# Altium schematic symbol library Electro-Mechanical.SchLib: 38 symbols (part 2 of 2)
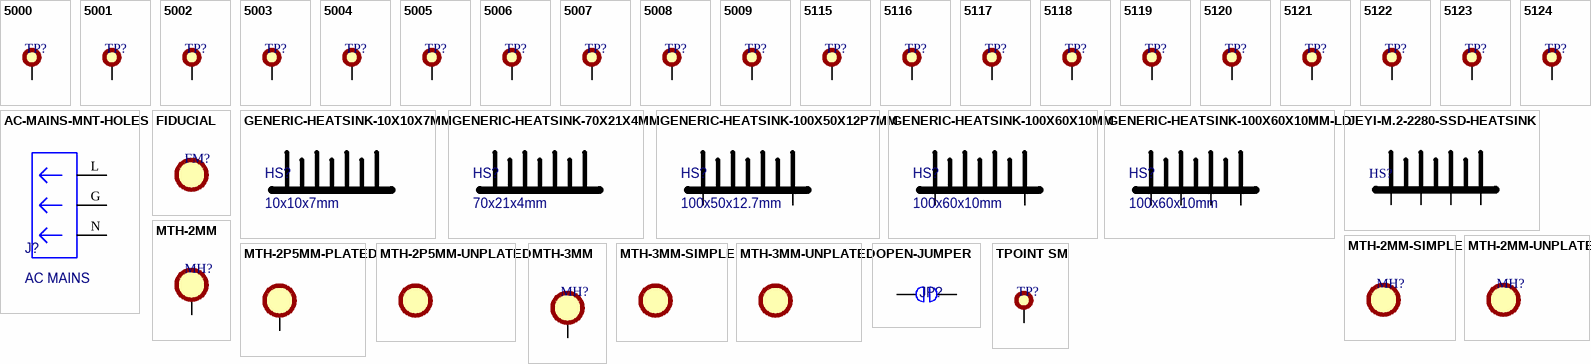
[diagram p1: symbols 5000 to TPOINT SM]

## 5123
designator TP?, comment GREY TEST POINT  (value not drawn)
PC TEST POINT COMPACT GREY; Manufacturer: Keystone; Manufacturer Part Number: 5123; Body Material: PBT; Supplier: DigiKey; Supplier Part Number: 36-5123-ND; RoHS: Compliant; Category: Test Points; Stock: 4125; Pricing: 1=0.39, 10=0.293, 25=0.2624, 100=0.2223, 500=0.19, 2500=0.16, 5000=0.14312 (USD); Color: Grey; Contact Material: Bronze; Contact Plating: Silver; Flammability Rating: UL94 V-0; Height: 8.89mm; Lead Free: Lead Free; Lifecycle Status: Production; Material: Bronze, Nylon; Max Operating Temperature: 85°C; Min Operating Temperature: -45°C; Mounting Technology: PCB, Through Hole; Packaging: Bulk; REACH SVHC: Yes; ComponentLink1URL: https://datasheet.octopart.com:443/5123-Keystone-datasheet-47124280.pdf?src-supplier=IHS; ComponentLink1Description: https://datasheet.octopart.com:443/5123-Keystone-datasheet-47124280.pdf?src-supplier=IHS; ComponentLink2URL: https://datasheet.octopart.com:443/5123-Keystone-datasheet-15716159.pdf?src-supplier=Newark; ComponentLink2Description: https://datasheet.octopart.com:443/5123-Keystone-datasheet-15716159.pdf?src-supplier=Newark; ComponentLink3URL: https://datasheet.octopart.com:443/5123-Keystone-datasheet-60278094.pdf?src-supplier=Future+Electronics; ComponentLink3Description: https://datasheet.octopart.com:443/5123-Keystone-datasheet-60278094.pdf?src-supplier=Future+Electronics; ComponentLink4URL: https://datasheet.octopart.com:443/5123-Keystone-datasheet-10925273.pdf?src-supplier=RS+(Formerly+Allied+Electronics); ComponentLink4Description: https://datasheet.octopart.com:443/5123-Keystone-datasheet-10925273.pdf?src-supplier=RS+(Formerly+Allied+Electronics); ComponentLink5URL: https://datasheet.octopart.com:443/5123-Keystone-datasheet-9590016.pdf?src-supplier=RS+(Formerly+Allied+Electronics); ComponentLink5Description: https://datasheet.octopart.com:443/5123-Keystone-datasheet-9590016.pdf?src-supplier=RS+(Formerly+Allied+Electronics)
footprint TEST_POINT_TH_3P18X5P59MM_GREY
pins: 1 TP

## 5124
designator TP?, comment PURPLE TEST POINT  (value not drawn)
PC TEST POINT COMPACT PURPLE; Manufacturer: Keystone; Manufacturer Part Number: 5124; Body Material: PBT; Supplier: DigiKey; Supplier Part Number: 36-5124-ND; RoHS: Compliant; Category: Test Points; Stock: 5005; Pricing: 1=0.39, 10=0.293, 25=0.2624, 100=0.2223, 500=0.19, 2500=0.16, 5000=0.14312 (USD); Color: Violet; Contact Material: Bronze; Contact Plating: Silver; Flammability Rating: UL94 V-0; Height: 8.89mm; Lifecycle Status: Production; Material: Nylon; Max Operating Temperature: 85°C; Min Operating Temperature: -45°C; Mounting Technology: PCB; Packaging: Bulk; REACH SVHC: Yes; ComponentLink1URL: https://datasheet.octopart.com:443/5124-Keystone-datasheet-47124280.pdf?src-supplier=IHS; ComponentLink1Description: https://datasheet.octopart.com:443/5124-Keystone-datasheet-47124280.pdf?src-supplier=IHS; ComponentLink2URL: https://datasheet.octopart.com:443/5124-Keystone-datasheet-15716159.pdf?src-supplier=Newark; ComponentLink2Description: https://datasheet.octopart.com:443/5124-Keystone-datasheet-15716159.pdf?src-supplier=Newark; ComponentLink3URL: https://datasheet.octopart.com:443/5124-Keystone-datasheet-60278094.pdf?src-supplier=RS+(Formerly+Allied+Electronics); ComponentLink3Description: https://datasheet.octopart.com:443/5124-Keystone-datasheet-60278094.pdf?src-supplier=RS+(Formerly+Allied+Electronics); ComponentLink4URL: https://datasheet.octopart.com:443/5124-Keystone-datasheet-10925273.pdf?src-supplier=RS+(Formerly+Allied+Electronics); ComponentLink4Description: https://datasheet.octopart.com:443/5124-Keystone-datasheet-10925273.pdf?src-supplier=RS+(Formerly+Allied+Electronics); ComponentLink5URL: https://datasheet.octopart.com:443/5124-Keystone-datasheet-9590016.pdf?src-supplier=RS+(Formerly+Allied+Electronics); ComponentLink5Description: https://datasheet.octopart.com:443/5124-Keystone-datasheet-9590016.pdf?src-supplier=RS+(Formerly+Allied+Electronics)
footprint TEST_POINT_TH_3P18X5P59MM_PURPLE
pins: 1 TP

## AC-MAINS-MNT-HOLES
designator J?, comment AC MAINS  (no BOM)
AC MAINS MOUNT HOLES
footprint AC-INPUT-3MM-HOLE
pins: G, L, N

## FIDUCIAL
designator FM?, comment Fiducial  (value not drawn)  (no BOM)
FIDUCIAL MARKER
footprint FIDUCIAL_MARK

## GENERIC-HEATSINK-10X10X7MM
designator HS?, comment 10x10x7mm
GENERIC HEATSINK 10X10X7MM; Manufacturer: OEM; Manufacturer Part Number: None
footprint HEATSINK_10MM_10MM_7MM

## GENERIC-HEATSINK-70X21X4MM
designator HS?, comment 70x21x4mm
GENERIC HEATSINK 70X21X4MM; Manufacturer: OEM; Manufacturer Part Number: None
footprint HEATSINK_70MM_21MM_4MM

## GENERIC-HEATSINK-100X50X12P7MM
designator HS?, comment 100x50x12.7mm
GENERIC HEATSINK 100X50X12P7MM; Manufacturer: OEM; Manufacturer Part Number: None
footprint HEATSINK_100MM_50MM_12P7MM
pins: H1, H2

## GENERIC-HEATSINK-100X60X10MM
designator HS?, comment 100x60x10mm
GENERIC HEATSINK 100X60X10MM; Manufacturer: OEM; Manufacturer Part Number: None
footprint HEATSINK_100MM_60MM_10MM
pins: H1, H2

## GENERIC-HEATSINK-100X60X10MM-LD
designator HS?, comment 100x60x10mm
GENERIC HEATSINK 100X60X10MM; Manufacturer: OEM; Manufacturer Part Number: None
footprint HEATSINK_100MM_60MM_10MM_LAYING_DOWN
pins: H1, H2, H3, H4

## JEYI-M.2-2280-SSD-HEATSINK
designator HS?, comment HEATSINK  (value not drawn)  (mechanical)
JEYI M.2 2280 SSD HEATSINK; Height: 32mm; Width: 23.5mm; Length: 76mm
footprint HEATSINK_JEYI_76MM_23P5MM_32MM
pins: H1, H2, H3, H4

## MTH-2MM
designator MH?, comment Mounting Hole 2mm  (value not drawn)  (no BOM)
MOUNTING HOLE PLATED WITH 2MM
footprint MOUNTING_HOLE_M2
pins: H HOLE

## MTH-2MM-SIMPLE
designator MH?, comment Mounting Hole 2mm  (value not drawn)  (no BOM)
MOUNTING HOLE PLATED WITH 2MM
footprint MOUNTING_HOLE_M2_SIMPLE

## MTH-2MM-UNPLATED
designator MH?, comment Mounting Hole 2mm  (value not drawn)  (no BOM)
MOUNTING HOLE UNPLATED WITH 2MM
footprint MOUNTING_HOLE_M2_UNPLATED

## MTH-2P5MM-PLATED
designator MH?, comment Mounting Hole 2.5mm  (value not drawn)  (no BOM)
PLATED MOUNTING HOLE WITH 2.5MM DIAMETER
footprint MOUNTING_HOLE_M2P5_PLATED
pins: H 1

## MTH-2P5MM-UNPLATED
designator MH?, comment Mounting Hole 2.5mm  (value not drawn)  (no BOM)
UNPLATED MOUNTING HOLE WITH 2.5MM DIAMETER
footprint MOUNTING_HOLE_M2P5_UNPLATED

## MTH-3MM
designator MH?, comment Mounting Hole 3mm  (value not drawn)  (no BOM)
MOUNTING HOLE PLATED WITH 3MM
footprint MOUNTING_HOLE_M3
pins: H HOLE

## MTH-3MM-SIMPLE
designator MH?, comment Mounting Hole 3mm  (value not drawn)  (no BOM)
MOUNTING HOLE PLATED WITH 3MM
footprint MOUNTING_HOLE_M3_SIMPLE

## MTH-3MM-UNPLATED
designator MH?, comment Mounting Hole 3mm  (value not drawn)  (no BOM)
UNPLATED MOUNTING HOLE WITH 3MM DIAMETER
footprint MOUNTING_HOLE_M3_UNPLATED

## OPEN-JUMPER
designator JP?  (value not drawn)
OPEN JUMPER
footprint OPEN-JUMPER-1MM
pins: 1, 2

## TPOINT SM
designator TP?, comment Test Point  (value not drawn)  (no BOM)
TEST POINT SMD
footprint TEST_POINT_SMD
pins: TP